# Altium footprint library USB-3-C-HZ-FM-4-FIX-DIP-SIG-SMD-WO-CRIMP.PcbLib: 1 footprints
Each footprint in its own frame and in the unit in brackets; x right, y up, seen from the top. Pads: shape width x height; smd on the part's side, far side on the other; paste and mask are expansions set on the pad; w line width, h text height; cw(c..) or ccw(c..) is an arc to the next point about the centre after c.
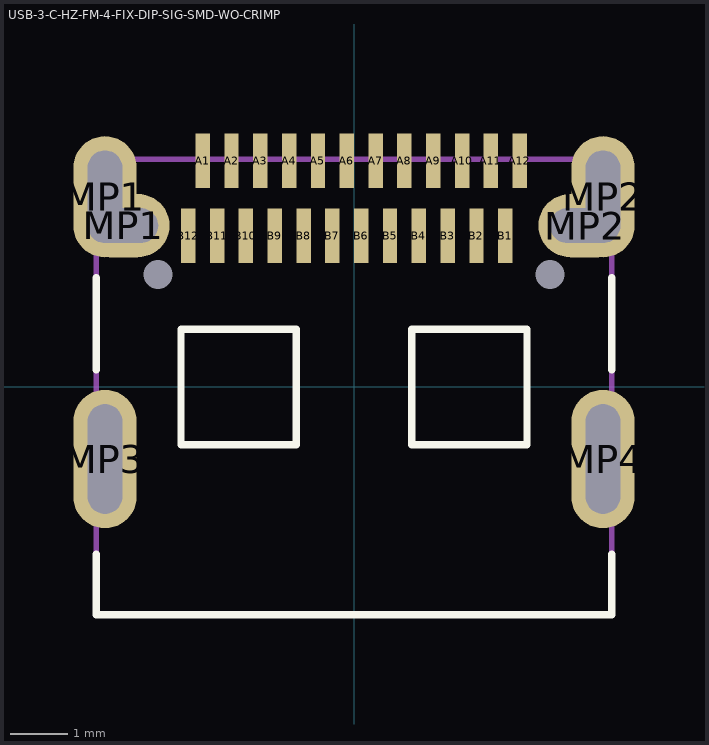
[diagram p0: the footprint, top view; thin cyan lines are the x and y axes]

## USB-3-C-HZ-FM-4-FIX-DIP-SIG-SMD-WO-CRIMP [mm]
height 3.16
pads (32):
  round 0.1 hole 0.5 unplated: 0(-3.4,1.95) 0(3.4,1.95)
  rect 0.25x0.95 smd: A1(-2.625,3.925) A2(-2.125,3.925) A3(-1.625,3.925) A4(-1.125,3.925) A5(-0.625,3.925) A6(-0.125,3.925) A7(0.375,3.925) A8(0.875,3.925) A9(1.375,3.925) A10(1.875,3.925) A11(2.375,3.925) A12(2.875,3.925) B1(2.625,2.625) B2(2.125,2.625) B3(1.625,2.625) B4(1.125,2.625) B5(0.625,2.625) B6(0.125,2.625) B7(-0.375,2.625) B8(-0.875,2.625) B9(-1.375,2.625) B10(-1.875,2.625) B11(-2.375,2.625) B12(-2.875,2.625)
  oval 1.1x2.1 hole 0.6 slot 1.6 at 90 deg: MP1(-4.32,3.3) MP2(4.32,3.3)
  oval 1.6x1.1 hole 0.6 slot 1.2 at 0 deg: MP1(-4,2.8) MP2(4,2.8)
  oval 1.1x2.4 hole 0.6 slot 1.9 at 90 deg: MP3(-4.32,-1.25) MP4(4.32,-1.25)
Top Overlay:
  lines w0.127: -4.47,-2.9 -4.47,-3.95 4.47,-3.95 4.47,-2.9 ; -4.47,0.3 -4.47,1.9 ; 4.47,0.3 4.47,1.9 ; -3,-1 -1,-1 -1,1 -3,1 -3,-1 ; 1,-1 1,1 3,1 3,-1 1,-1
Mechanical 13:
  lines w0.1: -4.47,-3.95 4.47,-3.95 4.47,3.95 -4.47,3.95 -4.47,-3.95
3D body: height 3.16, standoff -0.6, extent -4.47,-3.95 4.47,4.4